# Altium footprint library PCB_library_kolokwium.PcbLib: 12 footprints
Each footprint in its own frame and in the unit in brackets; x right, y up, seen from the top. Pads: shape width x height; smd on the part's side, far side on the other; paste and mask are expansions set on the pad; w line width, h text height; cw(c..) or ccw(c..) is an arc to the next point about the centre after c.
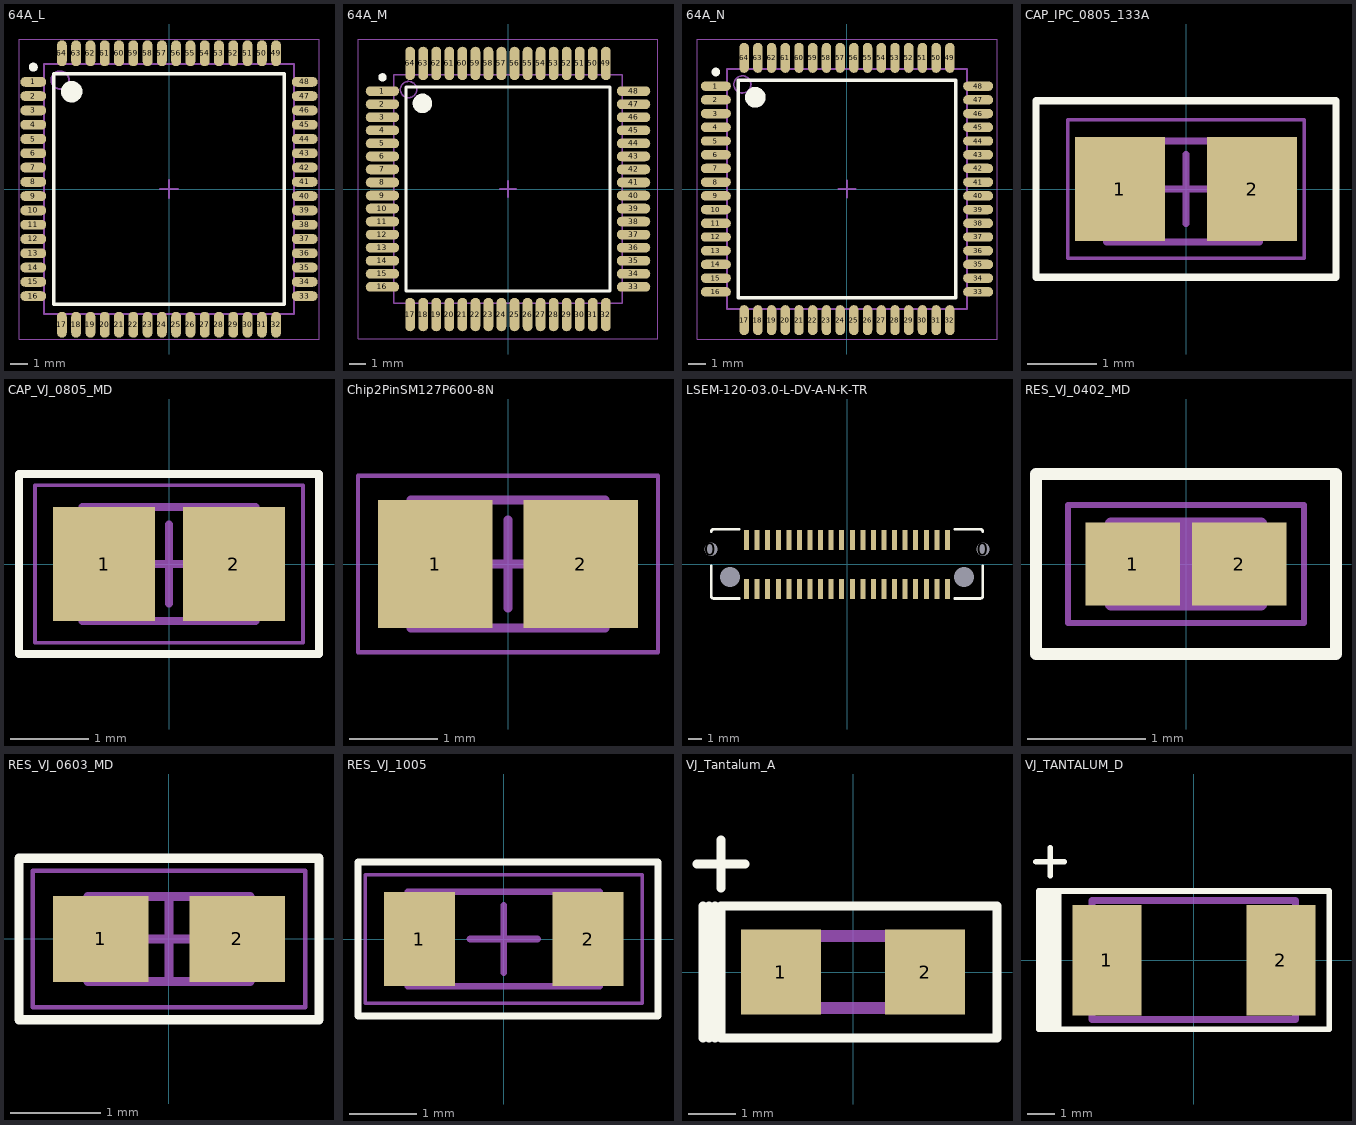
[diagram p0: the footprints below, top view; thin cyan lines are the x and y axes]

## 64A_L [mm] "Thin QFP, 64-Leads, Body 14x14mm, Pitch 0.8mm, IPC High Density"
height 1.2
pads (64):
  oval 1.45x0.55 smd: 1(-7.6,6) 2(-7.6,5.2) 3(-7.6,4.4) 4(-7.6,3.6) 5(-7.6,2.8) 6(-7.6,2) 7(-7.6,1.2) 8(-7.6,0.4) 9(-7.6,-0.4) 10(-7.6,-1.2) 11(-7.6,-2) 12(-7.6,-2.8) 13(-7.6,-3.6) 14(-7.6,-4.4) 15(-7.6,-5.2) 16(-7.6,-6) 33(7.6,-6) 34(7.6,-5.2) 35(7.6,-4.4) 36(7.6,-3.6) 37(7.6,-2.8) 38(7.6,-2) 39(7.6,-1.2) 40(7.6,-0.4) 41(7.6,0.4) 42(7.6,1.2) 43(7.6,2) 44(7.6,2.8) 45(7.6,3.6) 46(7.6,4.4) 47(7.6,5.2) 48(7.6,6)
  oval 0.55x1.45 smd: 17(-6,-7.6) 18(-5.2,-7.6) 19(-4.4,-7.6) 20(-3.6,-7.6) 21(-2.8,-7.6) 22(-2,-7.6) 23(-1.2,-7.6) 24(-0.4,-7.6) 25(0.4,-7.6) 26(1.2,-7.6) 27(2,-7.6) 28(2.8,-7.6) 29(3.6,-7.6) 30(4.4,-7.6) 31(5.2,-7.6) 32(6,-7.6) 49(6,7.6) 50(5.2,7.6) 51(4.4,7.6) 52(3.6,7.6) 53(2.8,7.6) 54(2,7.6) 55(1.2,7.6) 56(0.4,7.6) 57(-0.4,7.6) 58(-1.2,7.6) 59(-2,7.6) 60(-2.8,7.6) 61(-3.6,7.6) 62(-4.4,7.6) 63(-5.2,7.6) 64(-6,7.6)
Top Overlay:
  circle w0.25: c-7.6,6.825 r0.125
  circle w0.6: c-5.45,5.45 r0.3
  lines w0.2: -6.45,-6.45 -6.45,6.45 6.45,6.45 6.45,-6.45 -6.45,-6.45
Mechanical 13:
  circle w0.1: c-6.1,6.1 r0.5
  lines w0.1: -7,-7 -7,7 7,7 7,-7 -7,-7
Mechanical 15:
  lines w0.05: -8.4,-8.4 -8.4,8.4 8.4,8.4 8.4,-8.4 -8.4,-8.4
  lines w0.1: -0.5,0 0.5,0 ; 0,-0.5 0,0.5
3D body: height 1.2, standoff 0, extent -7,-7 7,7

## 64A_M [mm] "Thin QFP, 64-Leads, Body 14x14mm, Pitch 0.8mm, IPC Low Density"
height 1.2
pads (64):
  oval 2.05x0.6 smd: 1(-7.7,6) 2(-7.7,5.2) 3(-7.7,4.4) 4(-7.7,3.6) 5(-7.7,2.8) 6(-7.7,2) 7(-7.7,1.2) 8(-7.7,0.4) 9(-7.7,-0.4) 10(-7.7,-1.2) 11(-7.7,-2) 12(-7.7,-2.8) 13(-7.7,-3.6) 14(-7.7,-4.4) 15(-7.7,-5.2) 16(-7.7,-6) 33(7.7,-6) 34(7.7,-5.2) 35(7.7,-4.4) 36(7.7,-3.6) 37(7.7,-2.8) 38(7.7,-2) 39(7.7,-1.2) 40(7.7,-0.4) 41(7.7,0.4) 42(7.7,1.2) 43(7.7,2) 44(7.7,2.8) 45(7.7,3.6) 46(7.7,4.4) 47(7.7,5.2) 48(7.7,6)
  oval 0.6x2.05 smd: 17(-6,-7.7) 18(-5.2,-7.7) 19(-4.4,-7.7) 20(-3.6,-7.7) 21(-2.8,-7.7) 22(-2,-7.7) 23(-1.2,-7.7) 24(-0.4,-7.7) 25(0.4,-7.7) 26(1.2,-7.7) 27(2,-7.7) 28(2.8,-7.7) 29(3.6,-7.7) 30(4.4,-7.7) 31(5.2,-7.7) 32(6,-7.7) 49(6,7.7) 50(5.2,7.7) 51(4.4,7.7) 52(3.6,7.7) 53(2.8,7.7) 54(2,7.7) 55(1.2,7.7) 56(0.4,7.7) 57(-0.4,7.7) 58(-1.2,7.7) 59(-2,7.7) 60(-2.8,7.7) 61(-3.6,7.7) 62(-4.4,7.7) 63(-5.2,7.7) 64(-6,7.7)
Top Overlay:
  circle w0.25: c-7.7,6.85 r0.125
  circle w0.6: c-5.25,5.25 r0.3
  lines w0.2: -6.25,-6.25 -6.25,6.25 6.25,6.25 6.25,-6.25 -6.25,-6.25
Mechanical 13:
  circle w0.1: c-6.1,6.1 r0.5
  lines w0.1: -7,-7 -7,7 7,7 7,-7 -7,-7
Mechanical 15:
  lines w0.05: -9.2,-9.2 -9.2,9.2 9.2,9.2 9.2,-9.2 -9.2,-9.2
  lines w0.1: -0.5,0 0.5,0 ; 0,-0.5 0,0.5
3D body: height 1.2, standoff 0, extent -7,-7 7,7

## 64A_N [mm] "Thin QFP, 64-Leads, Body 14x14mm, Pitch 0.8mm, IPC Medium Density"
height 1.2
pads (64):
  oval 1.75x0.55 smd: 1(-7.65,6) 2(-7.65,5.2) 3(-7.65,4.4) 4(-7.65,3.6) 5(-7.65,2.8) 6(-7.65,2) 7(-7.65,1.2) 8(-7.65,0.4) 9(-7.65,-0.4) 10(-7.65,-1.2) 11(-7.65,-2) 12(-7.65,-2.8) 13(-7.65,-3.6) 14(-7.65,-4.4) 15(-7.65,-5.2) 16(-7.65,-6) 33(7.65,-6) 34(7.65,-5.2) 35(7.65,-4.4) 36(7.65,-3.6) 37(7.65,-2.8) 38(7.65,-2) 39(7.65,-1.2) 40(7.65,-0.4) 41(7.65,0.4) 42(7.65,1.2) 43(7.65,2) 44(7.65,2.8) 45(7.65,3.6) 46(7.65,4.4) 47(7.65,5.2) 48(7.65,6)
  oval 0.55x1.75 smd: 17(-6,-7.65) 18(-5.2,-7.65) 19(-4.4,-7.65) 20(-3.6,-7.65) 21(-2.8,-7.65) 22(-2,-7.65) 23(-1.2,-7.65) 24(-0.4,-7.65) 25(0.4,-7.65) 26(1.2,-7.65) 27(2,-7.65) 28(2.8,-7.65) 29(3.6,-7.65) 30(4.4,-7.65) 31(5.2,-7.65) 32(6,-7.65) 49(6,7.65) 50(5.2,7.65) 51(4.4,7.65) 52(3.6,7.65) 53(2.8,7.65) 54(2,7.65) 55(1.2,7.65) 56(0.4,7.65) 57(-0.4,7.65) 58(-1.2,7.65) 59(-2,7.65) 60(-2.8,7.65) 61(-3.6,7.65) 62(-4.4,7.65) 63(-5.2,7.65) 64(-6,7.65)
Top Overlay:
  circle w0.6: c-5.35,5.35 r0.3
  circle w0.25: c-7.65,6.825 r0.125
  lines w0.2: -6.35,-6.35 6.35,-6.35 6.35,6.35 -6.35,6.35 -6.35,-6.35
Mechanical 13:
  circle w0.1: c-6.1,6.1 r0.5
  lines w0.1: -7,-7 7,-7 7,7 -7,7 -7,-7
Mechanical 15:
  lines w0.05: -8.75,-8.75 8.75,-8.75 8.75,8.75 -8.75,8.75 -8.75,-8.75
  lines w0.1: -0.5,0 0.5,0 ; 0,-0.5 0,0.5
3D body: height 1.2, standoff 0, extent -7,-7 7,7

## CAP_IPC_0805_133A [mm]
pads (2):
  rect 1.3x1.5 smd: 1(-0.95,0) 2(0.95,0)
Top Overlay:
  lines w0.102: -2.159,-1.27 -2.159,1.27 2.159,1.27 2.159,-1.27 -2.159,-1.27
Mechanical 1:
  lines w0.1: -1.143,-0.762 -1.143,0.688 1.057,0.688 1.057,-0.762 -1.143,-0.762
Mechanical 2:
  text ".Designator" at -1.778,0.381 h0.5
Mechanical 3:
  text ".Comment" at -1.778,-0.508 h0.5
Mechanical 5:
  lines w0.05: -1.7,-1 -1.7,1 1.7,1 1.7,-1 -1.7,-1
  lines w0.1: -0.5,0 0.5,0 ; 0,-0.5 0,0.5
3D body "CAP_VJ_0805_MD.step": height 1.45, standoff 0, extent -1.143,-0.762 1.057,0.688

## CAP_VJ_0805_MD [mm] "Capacitor, 2-lead, 0805, Medium Density"
height 1.45
pads (2):
  rect 1.3x1.45 smd: 1(-0.825,0) 2(0.825,0)
Top Overlay:
  lines w0.102: -1.905,-1.143 1.905,-1.143 1.905,1.143 -1.905,1.143 -1.905,-1.143
Mechanical 1:
  lines w0.1: -1.1,-0.725 -1.1,0.725 1.1,0.725 1.1,-0.725 -1.1,-0.725
Mechanical 2:
  text ".Designator" at -1.651,0.254 h0.5
Mechanical 3:
  text ".Comment" at -1.651,-0.635 h0.5
Mechanical 5:
  lines w0.05: -1.7,-1 -1.7,1 1.7,1 1.7,-1 -1.7,-1
  lines w0.1: -0.5,0 0.5,0 ; 0,-0.5 0,0.5
3D body "CAP_VJ_0805_MD.step": height 1.45, standoff 0, extent -1.1,-0.725 1.1,0.725

## Chip2PinSM127P600-8N [mm]
height 1.45
pads (2):
  rect 1.3x1.45 smd: 1(-0.825,0) 2(0.825,0)
Mechanical 13:
  lines w0.1: -1.1,-0.725 -1.1,0.725 1.1,0.725 1.1,-0.725 -1.1,-0.725
Mechanical 15:
  lines w0.05: -1.7,-1 -1.7,1 1.7,1 1.7,-1 -1.7,-1
  lines w0.1: -0.5,0 0.5,0 ; 0,-0.5 0,0.5
3D body: height 1.45, standoff 0, extent -0.62,-0.725 0.62,0.725
3D body: height 1.45, standoff 0, extent -1.1,-0.725 -0.62,0.725
3D body: height 1.45, standoff 0, extent 0.62,-0.725 1.1,0.725

## LSEM-120-03.0-L-DV-A-N-K-TR [mm] "LSEM 0.8mm Razor Beam Hermaphroditic Connector 40-pin"
height 6
pads (48):
  round 0 hole 1 unplated: 0(-10.3,1.15) 0(10.3,1.15)
  round 2 on Top Paste paste+2: 0(-10.3,1.15) 0(10.3,1.15)
  round 2.1 on Top Solder paste+2: 0(-10.3,1.15) 0(10.3,1.15)
  round 0 hole 1.5 unplated: 0(-8.85,-0.95) 0(8.85,-0.95)
  rect 0.38x1.5 smd: 1(7.6,-1.85) 2(7.6,1.85) 3(6.8,-1.85) 4(6.8,1.85) 5(6,-1.85) 6(6,1.85) 7(5.2,-1.85) 8(5.2,1.85) 9(4.4,-1.85) 10(4.4,1.85) 11(3.6,-1.85) 12(3.6,1.85) 13(2.8,-1.85) 14(2.8,1.85) 15(2,-1.85) 16(2,1.85) 17(1.2,-1.85) 18(1.2,1.85) 19(0.4,-1.85) 20(0.4,1.85) 21(-0.4,-1.85) 22(-0.4,1.85) 23(-1.2,-1.85) 24(-1.2,1.85) 25(-2,-1.85) 26(-2,1.85) 27(-2.8,-1.85) 28(-2.8,1.85) 29(-3.6,-1.85) 30(-3.6,1.85) 31(-4.4,-1.85) 32(-4.4,1.85) 33(-5.2,-1.85) 34(-5.2,1.85) 35(-6,-1.85) 36(-6,1.85) 37(-6.8,-1.85) 38(-6.8,1.85) 39(-7.6,-1.85) 40(-7.6,1.85)
Top Overlay:
  lines w0.2: -10.275,-0.1 -10.275,-2.375 ccw(c-10.075,-2.375) -10.075,-2.575 -8.15,-2.575 ; -10.275,2.475 cw(c-10.075,2.475) -10.075,2.675 -8.15,2.675 ; 8.15,-2.575 10.075,-2.575 ccw(c10.075,-2.375) 10.275,-2.375 10.275,-0.1 ; 8.15,2.675 10.075,2.675 cw(c10.075,2.475) 10.275,2.475
3D body "LSEM-120-03.0-X-DV-A-N-K.step": height 4.58, standoff -0.85, extent -10.2,-2.7 10.2,2.8

## RES_VJ_0402_MD [mm] "Chip Resistor, 2-Leads, 0402, Medium Density"
height 1.15
pads (2):
  rect 0.8x0.7 smd: 1(-0.45,0) 2(0.45,0)
Top Overlay:
  lines w0.102: -1.27,-0.762 -1.27,0.762 1.27,0.762 1.27,-0.762 -1.27,-0.762
Mechanical 1:
  lines w0.1: -0.635,-0.345 0.635,-0.345 0.635,0.345 -0.635,0.345 -0.635,-0.345
Mechanical 2:
  text ".Designator" at -1.143,0.254 h0.4
Mechanical 3:
  text ".Comment" at -1.143,-0.635 h0.4
Mechanical 5:
  lines w0.05: -1,-0.5 1,-0.5 1,0.5 -1,0.5 -1,-0.5
  lines w0.1: -0.345,0 0.345,0 ; 0,-0.345 0,0.345
3D body "RES_VJ_0402_MD.step": height 1.14, standoff 0, extent -0.635,-0.345 0.635,0.345

## RES_VJ_0603_MD [mm] "Chip Resistor, 2-leads, 0602, Medium Density"
height 0.51
pads (2):
  rect 1.05x0.95 smd: 1(-0.75,0) 2(0.75,0)
Top Overlay:
  lines w0.102: -1.651,-0.889 1.651,-0.889 1.651,0.889 -1.651,0.889 -1.651,-0.889
Mechanical 1:
  lines w0.1: -0.89,-0.47 -0.89,0.47 0.89,0.47 0.89,-0.47 -0.89,-0.47
Mechanical 2:
  text ".Designator" at -1.397,0.254 h0.5
Mechanical 3:
  text ".Comment" at -1.397,-0.635 h0.5
Mechanical 5:
  lines w0.05: -1.5,-0.75 -1.5,0.75 1.5,0.75 1.5,-0.75 -1.5,-0.75
  lines w0.1: -0.47,0 0.47,0 ; 0,-0.47 0,0.47
3D body "RES_VJ_0603_MD.step": height 0.51, standoff 0, extent -0.89,-0.47 0.89,0.47

## RES_VJ_1005 [mm] "Chip Resistor, 2-Leads, 1005, Medium Density"
height 0.84
pads (2):
  rect 1.05x1.4 smd: 1(-1.25,0) 2(1.25,0)
Top Overlay:
  lines w0.102: -2.159,-1.143 2.286,-1.143 2.286,1.143 -2.159,1.143 -2.159,-1.143
Mechanical 1:
  lines w0.1: -1.42,-0.7 -1.42,0.7 1.42,0.7 1.42,-0.7 -1.42,-0.7
Mechanical 2:
  text ".Designator" at -1.905,0.127 h0.5
Mechanical 3:
  text ".Comment" at -1.778,-0.635 h0.5
Mechanical 4:
  lines w0.05: -2.05,-0.95 -2.05,0.95 2.05,0.95 2.05,-0.95 -2.05,-0.95
  lines w0.1: -0.5,0 0.5,0 ; 0,-0.5 0,0.5
3D body "RES_VJ_1005.step": height 0.84, standoff 0, extent -1.42,-0.7 1.42,0.7

## VJ_Tantalum_A [mm]
pads (2):
  rect 1.7x1.8 smd: 1(-1.525,0) 2(1.525,0)
Top Overlay:
  lines w0.2: -3.302,2.286 -2.286,2.286 ; -3.175,-1.397 -3.175,1.397 ; -3.048,-1.397 -3.048,1.397 ; -2.921,-1.397 -2.921,1.397 ; -2.794,1.778 -2.794,2.794 ; -2.794,-1.397 -2.794,-0.851 -2.794,1.397 3.048,1.397 3.048,-1.397 -2.794,-1.397
Mechanical 1:
  lines w0.025: -1.85,-0.55 -1.45,-0.55 -1.45,0.45 -1.85,0.45 -1.85,-0.55
  lines w0.254: -1.651,-0.762 -1.651,0.762 1.651,0.762 1.651,-0.762 -1.651,-0.762
Mechanical 2:
  text ".Designator" at -3.048,0.381 h0.8
Mechanical 3:
  text ".Comment" at -3.048,-1.143 h0.8
3D body: height 1.6, standoff 0, extent -1.778,-0.889 1.778,0.889
3D body: height 0.8, standoff 0, extent -1.849,-0.549 -1.652,0.449
3D body: height 0.8, standoff 0, extent 1.652,-0.549 1.849,0.449

## VJ_TANTALUM_D [mm]
pads (2):
  rect 2.5x4 smd: 1(-3.15,0) 2(3.15,0)
Top Overlay:
  rectangle: -5.588,-2.54 -4.9,2.5
  lines w0.2: -5.715,3.556 -4.699,3.556 ; -5.609,-2.5 -5.609,2.5 -4.9,2.5 ; -5.588,-2.5 -4.879,-2.5 ; -5.207,3.048 -5.207,4.064 ; -4.9,2.5 4.9,2.5 4.9,-2.5 -4.9,-2.5 -4.9,0 -4.9,2.5
Mechanical 1:
  lines w0.254: -3.683,-2.159 -3.683,2.159 3.683,2.159 3.683,-2.159 -3.683,-2.159
Mechanical 2:
  text ".Designator" at -4.318,-0.381 h0.8
Mechanical 3:
  text ".Comment" at -4.318,-1.778 h0.8
3D body: height 2.8, standoff 0, extent -3.81,-2.286 3.81,2.286